# Altium footprint library libreria.PcbLib: 1 footprints
Each footprint in its own frame and in the unit in brackets; x right, y up, seen from the top. Pads: shape width x height; smd on the part's side, far side on the other; paste and mask are expansions set on the pad; w line width, h text height; cw(c..) or ccw(c..) is an arc to the next point about the centre after c.
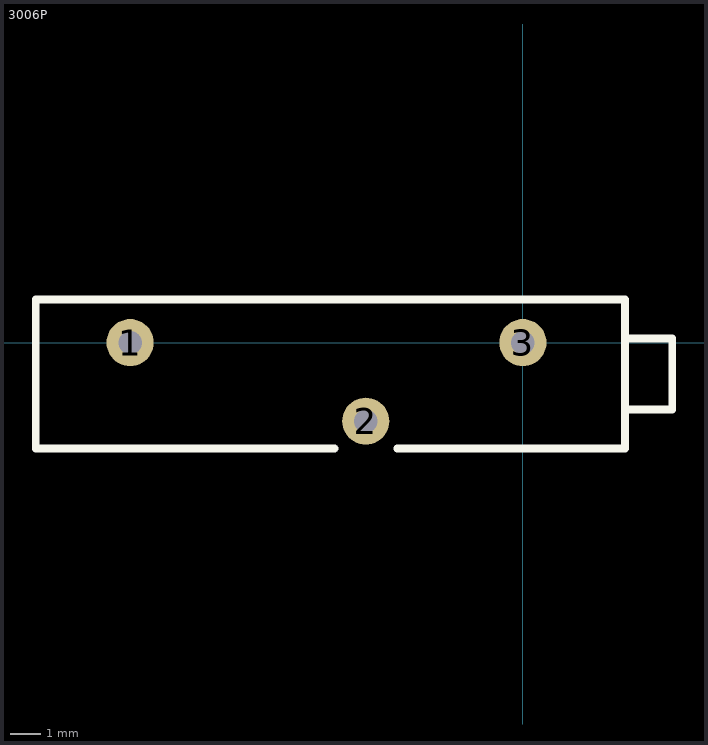
[diagram p0: the footprint, top view; thin cyan lines are the x and y axes]

## 3006P [mil] "Rectangular Trimming Potentiometer 3006P"
pads (3):
  round 60 hole 30: 1(-500,0) 2(-200,-100) 3(0,0)
Top Overlay:
  lines w10: -240,-135 -620,-135 -620,55 130,55 130,-135 -160,-135 ; 130,-85 190,-85 190,5 130,5